# Altium footprint library IDC_100_2x20_RA.PcbLib: 1 footprints
Each footprint in its own frame and in the unit in brackets; x right, y up, seen from the top. Pads: shape width x height; smd on the part's side, far side on the other; paste and mask are expansions set on the pad; w line width, h text height; cw(c..) or ccw(c..) is an arc to the next point about the centre after c.
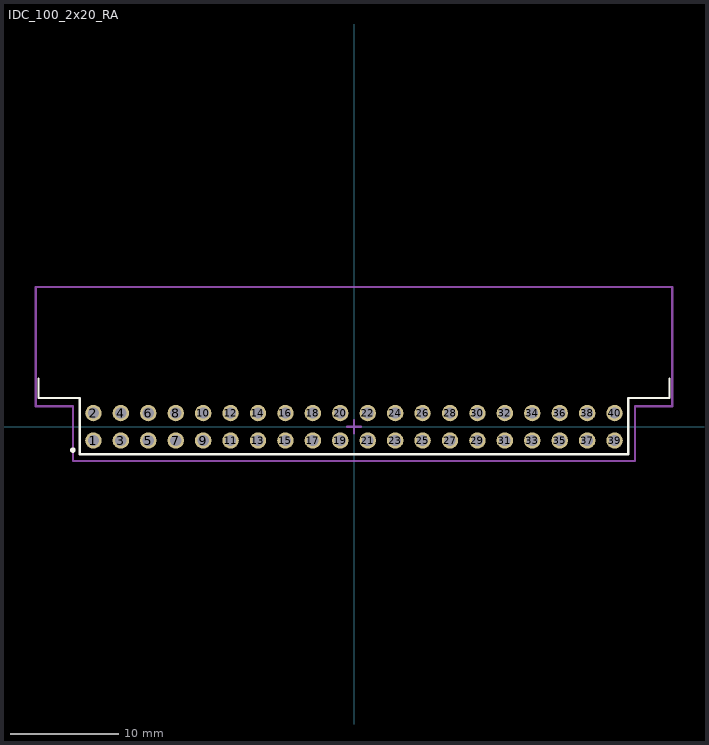
[diagram p0: the footprint, top view; thin cyan lines are the x and y axes]

## IDC_100_2x20_RA [mil]
pads (40):
  round 60 hole 41: 1(-950,-50) 2(-950,50) 3(-850,-50) 4(-850,50) 5(-750,-50) 6(-750,50) 7(-650,-50) 8(-650,50) 9(-550,-50) 10(-550,50) 11(-450,-50) 12(-450,50) 13(-350,-50) 14(-350,50) 15(-250,-50) 16(-250,50) 17(-150,-50) 18(-150,50) 19(-50,-50) 20(-50,50) 21(50,-50) 22(50,50) 23(150,-50) 24(150,50) 25(250,-50) 26(250,50) 27(350,-50) 28(350,50) 29(450,-50) 30(450,50) 31(550,-50) 32(550,50) 33(650,-50) 34(650,50) 35(750,-50) 36(750,50) 37(850,-50) 38(850,50) 39(950,-50) 40(950,50)
Top Overlay:
  circle w10: c-1025,-85 r5
  lines w7.87: -1150,175 -1150,105 -1000,105 -1000,-100 1000,-100 1000,105 1150,105 1150,175
Mechanical 15:
  lines w7.87: -25,0 25,0 ; 0,-25 0,25 ; -1160,75 -1025,75 -1025,-125 1025,-125 1025,75 1160,75 1160,510 -1160,510 -1160,75
3D body "75867107lf.stp": height 366.19, standoff -119.66, extent -1141.93,-63 1141.93,487